# Altium footprint library Crys_NDK_NX2520SA-16MHZ-STD-CSW-4_eec_0.PcbLib: 1 footprints
Each footprint in its own frame and in the unit in brackets; x right, y up, seen from the top. Pads: shape width x height; smd on the part's side, far side on the other; paste and mask are expansions set on the pad; w line width, h text height; cw(c..) or ccw(c..) is an arc to the next point about the centre after c.
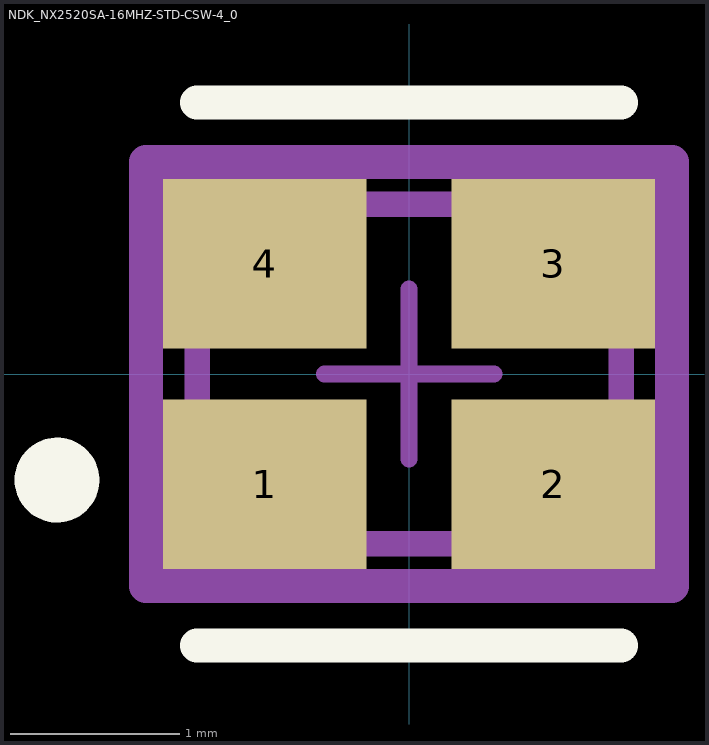
[diagram p0: the footprint, top view; thin cyan lines are the x and y axes]

## NDK_NX2520SA-16MHZ-STD-CSW-4_0 [mm]
pads (4):
  rect 1.2x1 smd paste+0 mask+0: 1(-0.85,-0.65) 2(0.85,-0.65) 3(0.85,0.65) 4(-0.85,0.65)
Top Overlay:
  circle w0.25: c-2.075,-0.625 r0.125
  lines w0.2: -1.25,-1.6 1.25,-1.6 ; -1.25,1.6 1.25,1.6
Mechanical 10:
  lines w0.2: -1.55,-1.25 1.55,-1.25 1.55,1.25 -1.55,1.25 -1.55,-1.25
  text ".Designator" at 0,0 h1
Mechanical 12:
  lines w0.15: -1.25,-1 1.25,-1 1.25,1 -1.25,1 -1.25,-1
Mechanical 15:
  lines w0.1: -0.5,0 0.5,0 ; 0,-0.5 0,0.5
  lines w0.2: -1.55,-1.25 1.55,-1.25 1.55,1.25 -1.55,1.25 -1.55,-1.25